# EAGLE library part INDRAMAT_MOK1 (library act-global-nolan)
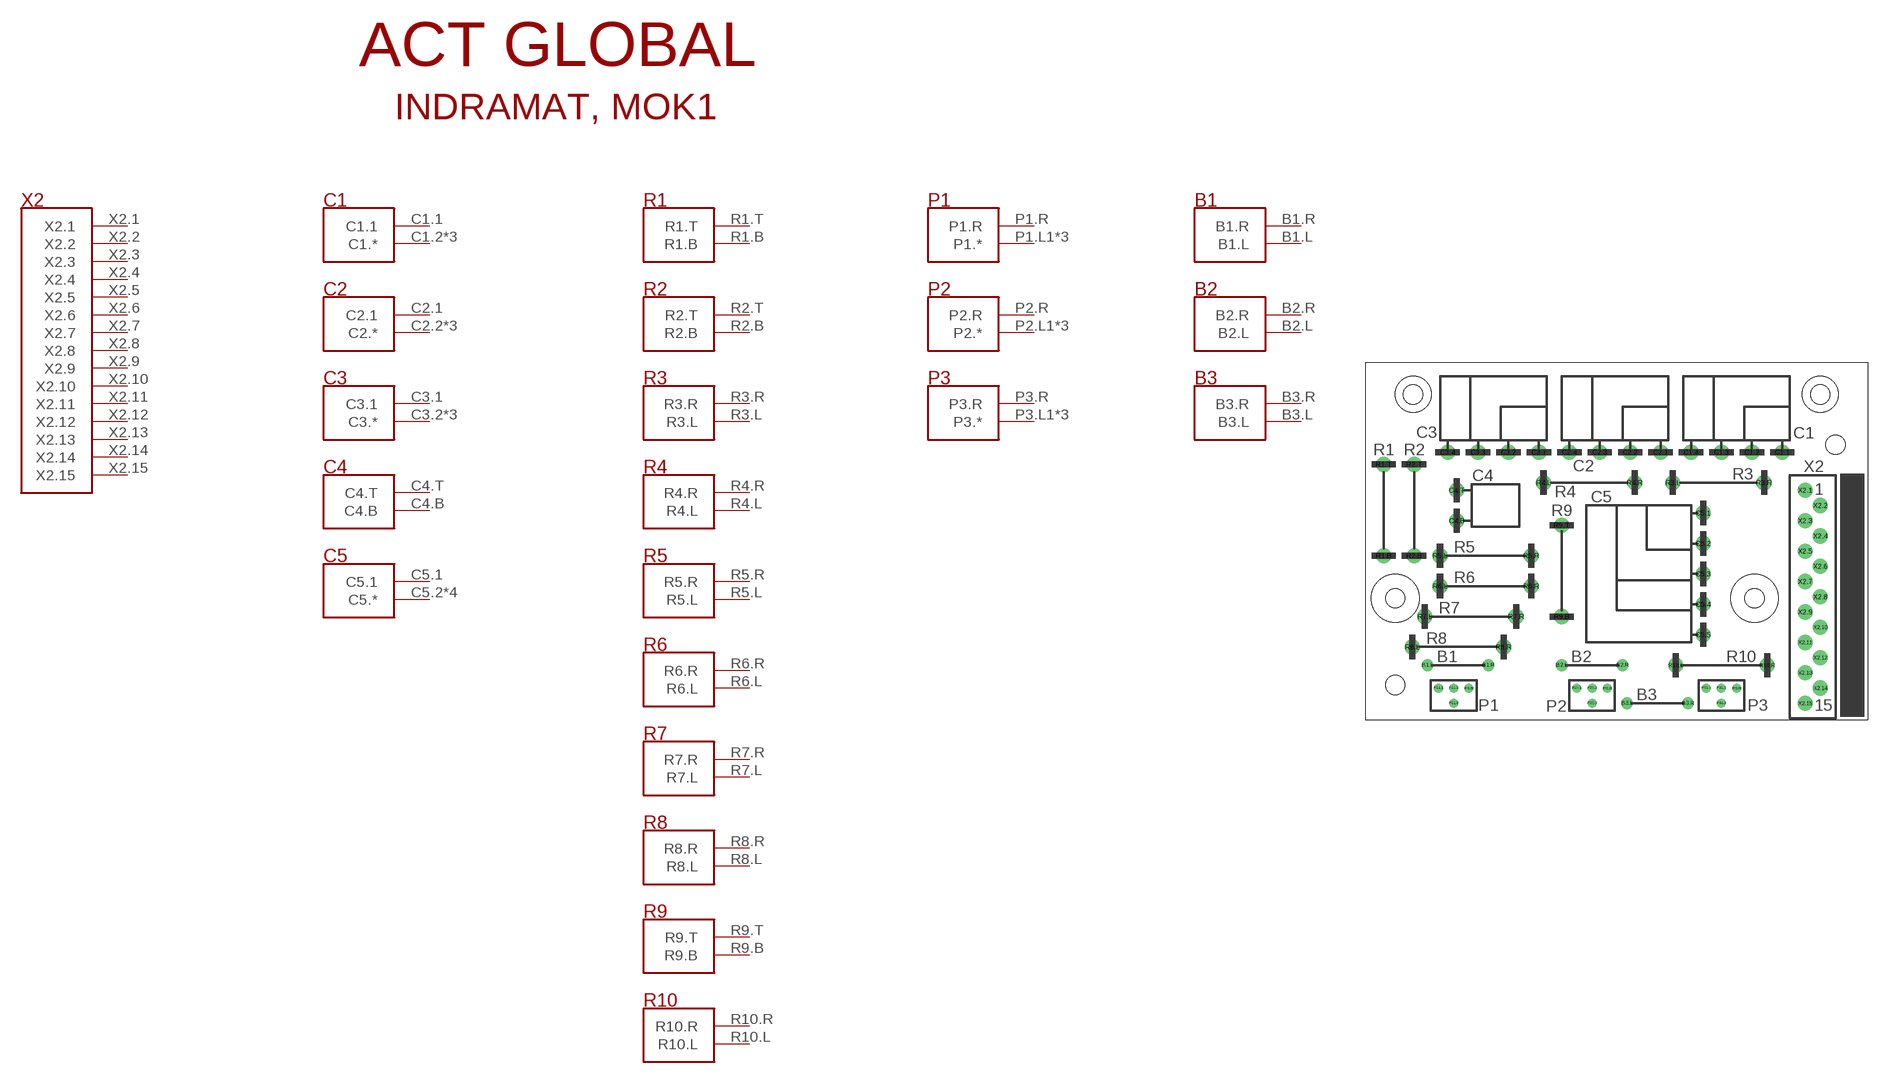
[diagram p5: symbol with the pads of INDRAMAT_MOK1; footprint INDRAMAT_MOK1]

Designator prefix -

## INDRAMAT_MOK1  [INDRAMAT_MOK1]
B1.L  B1.L
B1.R  B1.R
B2.L  B2.L
B2.R  B2.R
B3.L  B3.L
B3.R  B3.R
C1.1  C1.1
C1.2  C1.*
C1.3  C1.*
C1.4  C1.*
C2.1  C2.1
C2.2  C2.*
C2.3  C2.*
C2.4  C2.*
C3.1  C3.1
C3.2  C3.*
C3.3  C3.*
C3.4  C3.*
C4.B  C4.B
C4.T  C4.T
C5.1  C5.1
C5.2  C5.*
C5.3  C5.*
C5.4  C5.*
C5.5  C5.*
P1.L1  P1.*
P1.L2  P1.*
P1.L3  P1.*
P1.R  P1.R
P2.L1  P2.*
P2.L2  P2.*
P2.L3  P2.*
P2.R  P2.R
P3.L1  P3.*
P3.L2  P3.*
P3.L3  P3.*
P3.R  P3.R
R1.B  R1.B
R1.T  R1.T
R2.B  R2.B
R2.T  R2.T
R3.L  R3.L
R3.R  R3.R
R4.L  R4.L
R4.R  R4.R
R5.L  R5.L
R5.R  R5.R
R6.L  R6.L
R6.R  R6.R
R7.L  R7.L
R7.R  R7.R
R8.L  R8.L
R8.R  R8.R
R9.B  R9.B
R9.T  R9.T
R10.L  R10.L
R10.R  R10.R
X2.1  X2.1
X2.2  X2.2
X2.3  X2.3
X2.4  X2.4
X2.5  X2.5
X2.6  X2.6
X2.7  X2.7
X2.8  X2.8
X2.9  X2.9
X2.10  X2.10
X2.11  X2.11
X2.12  X2.12
X2.13  X2.13
X2.14  X2.14
X2.15  X2.15

## Footprint INDRAMAT_MOK1 (pad centres in mm)
drill 1.1 pad 1.93: B1.L -65.58,-45.21; B1.R -55.42,-45.21; B2.L -43.18,-45.21; B2.R -33.02,-45.21; B3.L -32.258,-51.56; B3.R -22.098,-51.56
drill 1.5 pad 2.54: C1.1 -6.35,-9.65; C1.2 -11.43,-9.65; C1.3 -16.51,-9.65; C1.4 -21.59,-9.65; C2.1 -26.67,-9.65; C2.2 -31.75,-9.65; C2.3 -36.83,-9.65; C2.4 -41.91,-9.65; C3.1 -46.99,-9.65; C3.2 -52.07,-9.65; C3.3 -57.15,-9.65; C3.4 -62.23,-9.65; C4.B -60.706,-21.08; C4.T -60.706,-16; C5.1 -19.558,-19.81; C5.2 -19.558,-24.89; C5.3 -19.558,-29.97; C5.4 -19.558,-35.05; C5.5 -19.558,-40.13; R1.B -72.898,-26.922; R1.T -72.898,-11.682; R2.B -67.818,-26.922; R2.T -67.818,-11.682; R3.L -24.638,-14.73; R3.R -9.398,-14.73; R4.L -46.228,-14.73; R4.R -30.988,-14.73; R5.L -63.5,-26.922; R5.R -48.26,-26.922; R6.L -63.5,-32.002; R6.R -48.26,-32.002; R7.L -66.04,-37.082; R7.R -50.8,-37.082; R8.L -68.12,-42.162; R8.R -52.88,-42.162; R9.B -43.18,-37.082; R9.T -43.18,-21.842; R10.L -24.13,-45.21; R10.R -8.89,-45.21; X2.1 -2.54,-16; X2.2 0,-18.54; X2.3 -2.54,-21.08; X2.4 0,-23.62; X2.5 -2.54,-26.16; X2.6 0,-28.7; X2.7 -2.54,-31.24; X2.8 0,-33.78; X2.9 -2.54,-36.32; X2.10 0,-38.86; X2.11 -2.54,-41.4; X2.12 0,-43.94; X2.13 -2.54,-46.48; X2.14 0,-49.02; X2.15 -2.54,-51.56
drill 1: P1.L1 -63.754,-49.02; P1.L2 -61.214,-49.02; P1.L3 -61.214,-51.56; P1.R -58.674,-49.02; P2.L1 -40.64,-49.02; P2.L2 -38.1,-49.02; P2.L3 -38.1,-51.56; P2.R -35.56,-49.02; P3.L1 -19.05,-49.02; P3.L2 -16.51,-49.02; P3.L3 -16.51,-51.56; P3.R -13.97,-49.02
hole 3.2 at 0,0
hole 3.2 at -68,0
hole 3.2 at -11,-34
hole 3.2 at -71,-34
hole 3.2 at 2.54,-8.382
hole 3.2 at -71,-48.5